# Altium schematic symbol library Schlib2.SchLib: 135 symbols
Pins are listed as number, name and electrical type; pins without a type are passive.

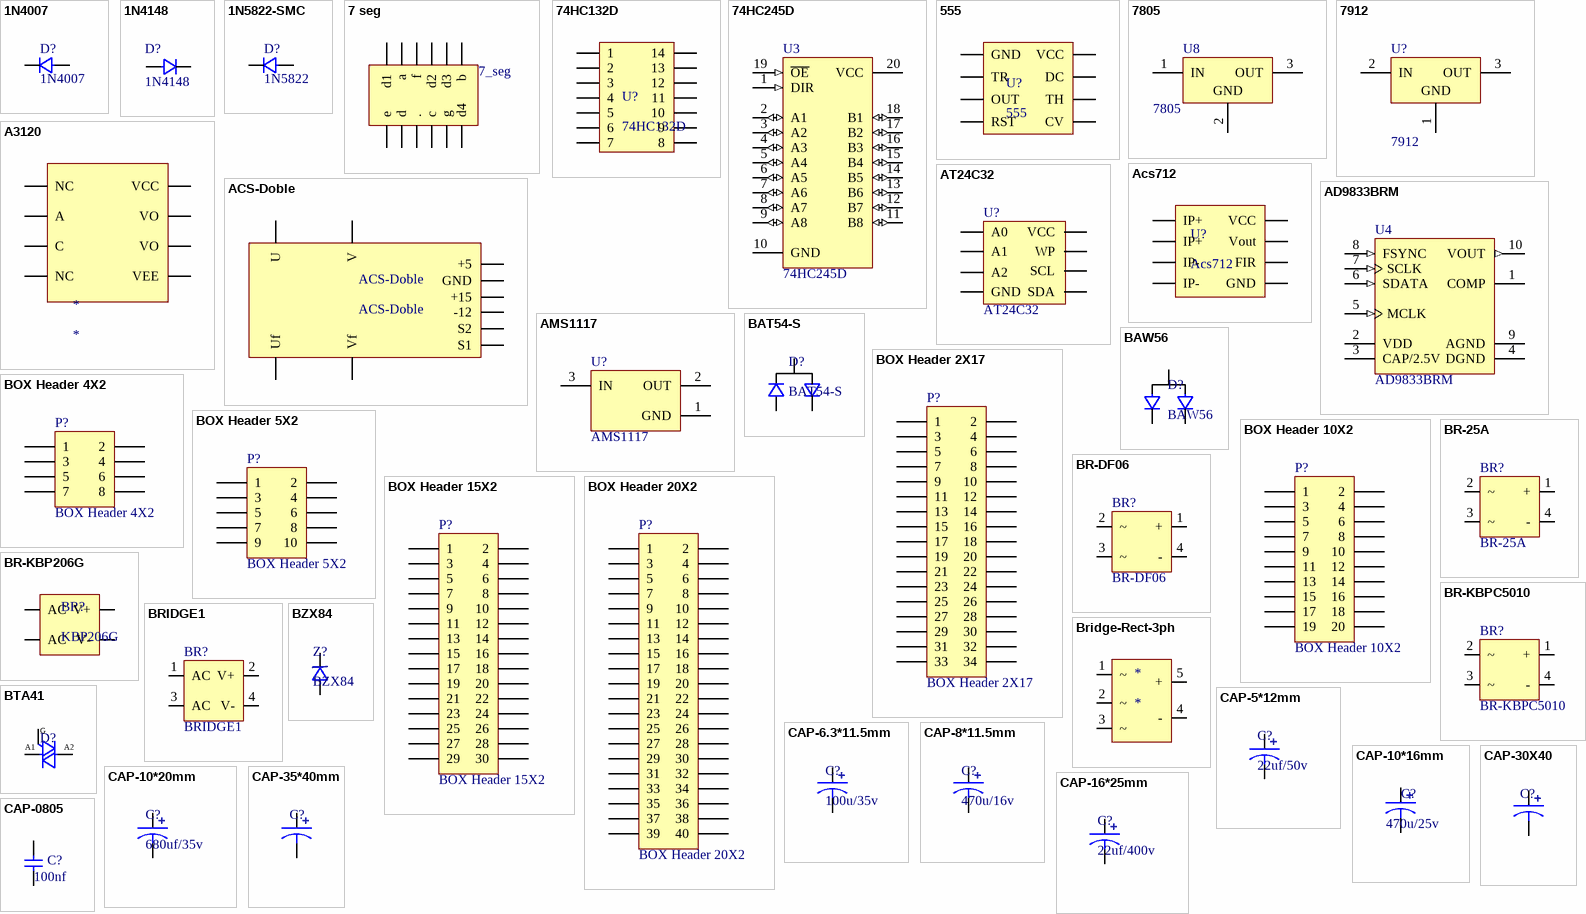
[diagram p0: symbols 1N4007 to CAP-0805]

## 1N4007
designator D?
Diode
footprint DIODE-SMA
footprint DO-41
pins: 1 K, 2 A

## 1N4148
designator D?
Diode
footprint 1N4148
footprint DO-35
pins: 1 A, 2 K

## 1N5822-SMC
designator D?, comment 1N5822
Diode
footprint DIODE-SMC
footprint DO-201AD
pins: 1 K, 2 A

## 7 seg
designator 7_seg, comment 7_seg  (value not drawn)
footprint 7_seg
pins: 1 d1, 2 a, 3 f, 4 d2, 5 d3, 6 b, 7 e, 8 d, 9 ., 10 c, 11 g, 12 d4

## 74HC132D
designator U?
footprint SOIC-7Pin
pins: 1, 2, 3, 4, 5, 6, 7, 8, 9, 10, 11, 12, 13, 14

## 74HC245D
designator U3
Octal 3-State Non-Inverting Bus Transceiver; Published: 15-Apr-2002; LatestRevisionDate: 13-Apr-2006; LatestRevisionNote: IPC-7351 Footprint Added.; DatasheetVersion: Mar-2000; PackageReference: 751D-05; Publisher: Altium Limited; PackageDescription: 20-Pin Small Outline Integrated Circuit 1.27 mm Pitch; ComponentLink1Description: Manufacturer Link; ComponentLink1URL: http://www.onsemi.com/; ComponentLink2Description: Datasheet; ComponentLink2URL: http://www.onsemi.com/pub/Collateral/MC74HC245A-D.PDF
footprint SOIC_20Leads (SOIC, 20-Leads, Body 12.8x7.5mm, Pitch 1.27mm, IPC High Density)
footprint TSSOP-20 Leads (Shrink Small Outline; 20 Leads; Body Width 4.4 mm; Pitch 0.65 mm)
pins: 1 DIR (in), 2 A1 (io), 3 A2 (io), 4 A3 (io), 5 A4 (io), 6 A5 (io), 7 A6 (io), 8 A7 (io), 9 A8 (io), 10 GND (power), 11 B8 (io), 12 B7 (io), 13 B6 (io), 14 B5 (io), 15 B4 (io), 16 B3 (io), 17 B2 (io), 18 B1 (io), 19 ~{OE} (in), 20 VCC (power)

## 555
designator U?
footprint SO-8-N
pins: 1 GND, 2 TR, 3 OUT, 4 RST, 5 CV, 6 TH, 7 DC, 8 VCC

## 7805
designator U8
PartNumber: L7812CV; DatasheetVersion: Nov-2011; PackageVersion: ver3.0; PackageReference: TO220; PackageDescription: TO, Thru-Hole, Vertical, Heatsink Mounted; 3 In-Line Leads; Pitch 2.54 mm; ComponentLink1Description: Manufacturer URL; ComponentLink1URL: http://www.st.com; ComponentLink2Description: Datasheet; ComponentLink2URL: http://www.st.com/internet/com/TECHNICAL_RESOURCES/TECHNICAL_LITERATURE/DATASHEET/CD00000444.pdf; ComponentLink3Description: Package Specification; ComponentLink3URL: http://www.st.com/internet/com/TECHNICAL_RESOURCES/TECHNICAL_LITERATURE/PACKAGE_INFORMATION/CD00004649.pdf
footprint D2PAK
footprint TO-220
footprint TO-252
pins: 1 IN (power), 2 GND (power), 3 OUT (power)

## 7912
designator U?
Three-Terminal Negative Voltage Regulator; Note: Pin 4 is TAB; Pin 2 is trimmed; Published: 15-Apr-2002; DatasheetVersion: 1996; PackageVersion: 1997; PackageReference: 936-03; Publisher: Altium Limited; PackageDescription: D2-PAK/TO-263-AB; 3 Leads (1 Cropped); Body 14.7 (inc. leads) x 10.2 mm (LxW max); ComponentLink1Description: Manufacturer Link; ComponentLink1URL: http://www.onsemi.com/site/products/taxonomy/0,4438,503,00.html; ComponentLink2Description: Datasheet; ComponentLink2URL: http://www.onsemi.com/pub/Collateral/MC7900-D.PDF
footprint TO-252
pins: 1 GND (power), 2 IN (power), 3 OUT (power)

## A3120
designator *
footprint SMD-8
pins: 1 NC, 2 A, 3 C, 4 NC, 5 VEE, 6 VO, 7 VO, 8 VCC

## Acs712
designator U?
footprint SO-8-N
pins: 1 IP+, 2 IP+, 3 IP-, 4 IP-, 5 GND, 6 FIR, 7 Vout, 8 VCC

## ACS-Doble
designator ACS-Doble
footprint ACS-Doble-empty
pins: +5, +15, -12, GND, S1, S2, u U, uf Uf, v V, vf Vf

## AD9833BRM
designator U4
Low Power, 12.65 mW, 2.3 V to 5.5 V, Programmable Waveform Generator, 10-Bit, Serial, RM-10, 50 Tube; Master fclk: 25MHz; Resolution (Bits): 10bit; Tuning Word Width (bits): 28bit; REFCLK Multiplier: No; Compliance Range (V): 650mV; FS Iout (mA nom): 3mA; I Supply total (max): 5.5mA; DatasheetVersion: Rev. D; PackageVersion: 5/8/2005; PackageReference: RM-10; PackageDescription: 10-Lead Mini Small Outline Package [MSOP]; I/O Interface: Serial; Code_JEDEC: MO-187-BA; ComponentLink1Description: Manufacturer URL; ComponentLink1URL: www.analog.com; ComponentLink2Description: Datasheet; ComponentLink2URL: http://www.analog.com/static/imported-files/data_sheets/AD9833.pdf; ComponentLink3Description: Package Specification; ComponentLink3URL: http://www.analog.com/static/imported-files/packages/PKG_PDF/MSOP%28RM%29/RM_10.pdf
footprint TSSOP-10Leads (TSSOP, 10-Leads, Body 3x3mm, Pitch 0.5mm, IPC High Density)
pins: 1 COMP "DAC Bias Pin. This pin is used for decoupling the DAC bias voltage.", 2 VDD (power) "Positive Power Supply for the Analog and Digital Interface Sections. The on-board 2.5 V regulator is also supplied from VDD. VDD can have a value from 2.3 V to 5.5 V. [see datasheet]", 3 CAP/2.5V (power) "The digital circuitry operates from a 2.5 V power supply. This 2.5 V is generated from VDD using an on-board regulator when VDD exceeds 2.7 V. [see datasheet]", 4 DGND (power) "Digital Ground.", 5 MCLK (in) "Digital Clock Input. DDS output frequencies are expressed as a binary fraction of the frequency of MCLK. The output frequency accuracy and phase noise are determined by this clock.", 6 SDATA (in) "Serial Data Input. The 16-bit serial data-word is applied to this input.", 7 SCLK (in) "Serial Clock Input. Data is clocked into the AD9833 on each falling edge of SCLK.", 8 FSYNC (in) "Active Low Control Input. FSYNC is the frame synchronization signal for the input data. When FSYNC is taken low, the internal logic is informed that a new word is being loaded into the device. [see datasheet]", 9 AGND (power) "Analog Ground.", 10 VOUT (out) "Voltage Output. The analog and digital output from the AD9833 is available at this pin. An external load resistor is not required because the device has a 200  ohm resistor on board."

## AMS1117
designator U?
800mA SOT-223; PartNumber: LM1117MP-3.3; Manufacturer: National Semiconductor; PackageTopMarking: XYTT*N05A; PowerWise: N; CompType: LDO IC; High-Reliability: Y; DatasheetVersion: Apr-2006; PackageVersion: revB, Apr-2003; PackageReference: MP04A; PackageDescription: Molded SOT-223, 6.50 x 3.56 x 1.6mm Body, 4 Lead, 2.3mm Pitch; RoHS: N; PinCount: 4; Code_JEDEC: TO-261-AA; Code_IPC: SOT223-4; ComponentLink1Description: Manufacturer URL; ComponentLink1URL: http://www.national.com/; ComponentLink2Description: LM1117 Datasheet; ComponentLink2URL: http://www.national.com/ds/LM/LM1117.pdf; ComponentLink3Description: LM1117 Web Page; ComponentLink3URL: http://www.national.com/pf/LM/LM1117.html; ComponentLink4Description: MP04A Package Page; ComponentLink4URL: http://www.national.com/packaging/folders/mp04a.html
footprint AMS1117-SOT223
pins: 1 GND (power), 2 OUT (power), 3 IN (power)

## AT24C32
designator U?
footprint SO-8-N
pins: 1 A0, 2 A1, 3 A2, 4 GND, 5 SDA, 6 SCL, 7 WP, 8 VCC

## BAT54-S
designator D?
footprint SOT23
pins: 1 K, 2 K, 3

## BAW56
designator D?
footprint SOT23
pins: 1 K, 2 K, 3

## BOX Header 2X17
designator P?
Header, 17-Pin, Dual row; LatestRevisionDate: 17-Jul-2002; LatestRevisionNote: Re-released for DXP Platform.; Publisher: Altium Limited
footprint BOX Header 2X17
footprint BOX Header 2X17 RA
pins: 1, 2, 3, 4, 5, 6, 7, 8, 9, 10, 11, 12, 13, 14, 15, 16, 17, 18, 19, 20, 21, 22, 23, 24, 25, 26, 27, 28, 29, 30, 31, 32, 33, 34

## BOX Header 4X2
designator P?
Header, 4-Pin, Dual row; LatestRevisionDate: 17-Jul-2002; LatestRevisionNote: Re-released for DXP Platform.; Publisher: Altium Limited
footprint BOX-HEADER-2X4
pins: 1, 2, 3, 4, 5, 6, 7, 8

## BOX Header 5X2
designator P?
Header, 5-Pin, Dual row; LatestRevisionDate: 17-Jul-2002; LatestRevisionNote: Re-released for DXP Platform.; Publisher: Altium Limited
footprint BOX-HEADER-2X5
pins: 1, 2, 3, 4, 5, 6, 7, 8, 9, 10

## BOX Header 10X2
designator P?
Header, 10-Pin, Dual row; LatestRevisionDate: 17-Jul-2002; LatestRevisionNote: Re-released for DXP Platform.; Publisher: Altium Limited
footprint BOX-HEADER-2X10
pins: 1, 2, 3, 4, 5, 6, 7, 8, 9, 10, 11, 12, 13, 14, 15, 16, 17, 18, 19, 20

## BOX Header 15X2
designator P?
Header, 15-Pin; LatestRevisionDate: 17-Jul-2002; LatestRevisionNote: Re-released for DXP Platform.; Publisher: Altium Limited
footprint BOX-HEADER-2X15
pins: 1, 2, 3, 4, 5, 6, 7, 8, 9, 10, 11, 12, 13, 14, 15, 16, 17, 18, 19, 20, 21, 22, 23, 24, 25, 26, 27, 28, 29, 30

## BOX Header 20X2
designator P?
Header, 20-Pin, Dual row; LatestRevisionDate: 17-Jul-2002; LatestRevisionNote: Re-released for DXP Platform.; Publisher: Altium Limited
footprint BOX-HEADER-2X20
pins: 1, 2, 3, 4, 5, 6, 7, 8, 9, 10, 11, 12, 13, 14, 15, 16, 17, 18, 19, 20, 21, 22, 23, 24, 25, 26, 27, 28, 29, 30, 31, 32, 33, 34, 35, 36, 37, 38, 39, 40

## BR-25A
designator BR?
footprint BR-25A
pins: 1 +, 2 ~, 3 ~, 4 -

## BR-DF06
designator BR?
footprint DF06
pins: 1 +, 2 ~, 3 ~, 4 -

## BR-KBP206G
designator BR?, comment KBP206G
footprint KBP206G
footprint KBU810
pins: 1 V+, 2 AC, 3 AC, 4 V-

## BR-KBPC5010
designator BR?
footprint KBPC5010
footprint KBPC5010W
pins: 1 +, 2 ~, 3 ~, 4 -

## BRIDGE1
designator BR?
Diode Bridge
footprint BRIDGE1
footprint BR-SMA
pins: 1 AC, 2 V+, 3 AC, 4 V-

## Bridge-Rect-3ph
designator *
footprint Bridge_Rect_3ph
pins: 1 ~, 2 ~, 3 ~, 4 -, 5 +

## BTA41
designator D?  (value not drawn)
footprint TO-264-N
pins: 1, 2 A, 3
text: G; A1; A2

## BZX84
designator Z?
footprint SOT23
pins: 2 K, 3

## CAP-5*12mm
designator C?, comment 22uf/50v
Capacitor
footprint CAP-5*12mm
pins: 1, 2

## CAP-6.3*11.5mm
designator C?, comment 100u/35v
Capacitor
footprint CAP-6.3*11.5mm
pins: 1, 2

## CAP-8*11.5mm
designator C?, comment 470u/16v
Capacitor
footprint CAP-8*11.5mm
pins: 1, 2

## CAP-10*16mm
designator C?, comment 470u/25v
Capacitor
footprint CAP-10*16mm
pins: 1, 2

## CAP-10*20mm
designator C?, comment 680uf/35v
Capacitor
footprint CAP-10*20mm
pins: 1, 2

## CAP-16*25mm
designator C?, comment 22uf/400v
Capacitor
footprint CAP-16*25mm
pins: 1, 2

## CAP-30X40
designator C?  (value not drawn)
footprint CAP-30X40
pins: 1, 2

## CAP-35*40mm
designator C?, comment 680UF/450V  (value not drawn)
Capacitor
footprint CAP-35*40mm
pins: 1, 2

## CAP-0805
designator C?, comment 100nf
Capacitor
footprint cap-0805
pins: 1, 2

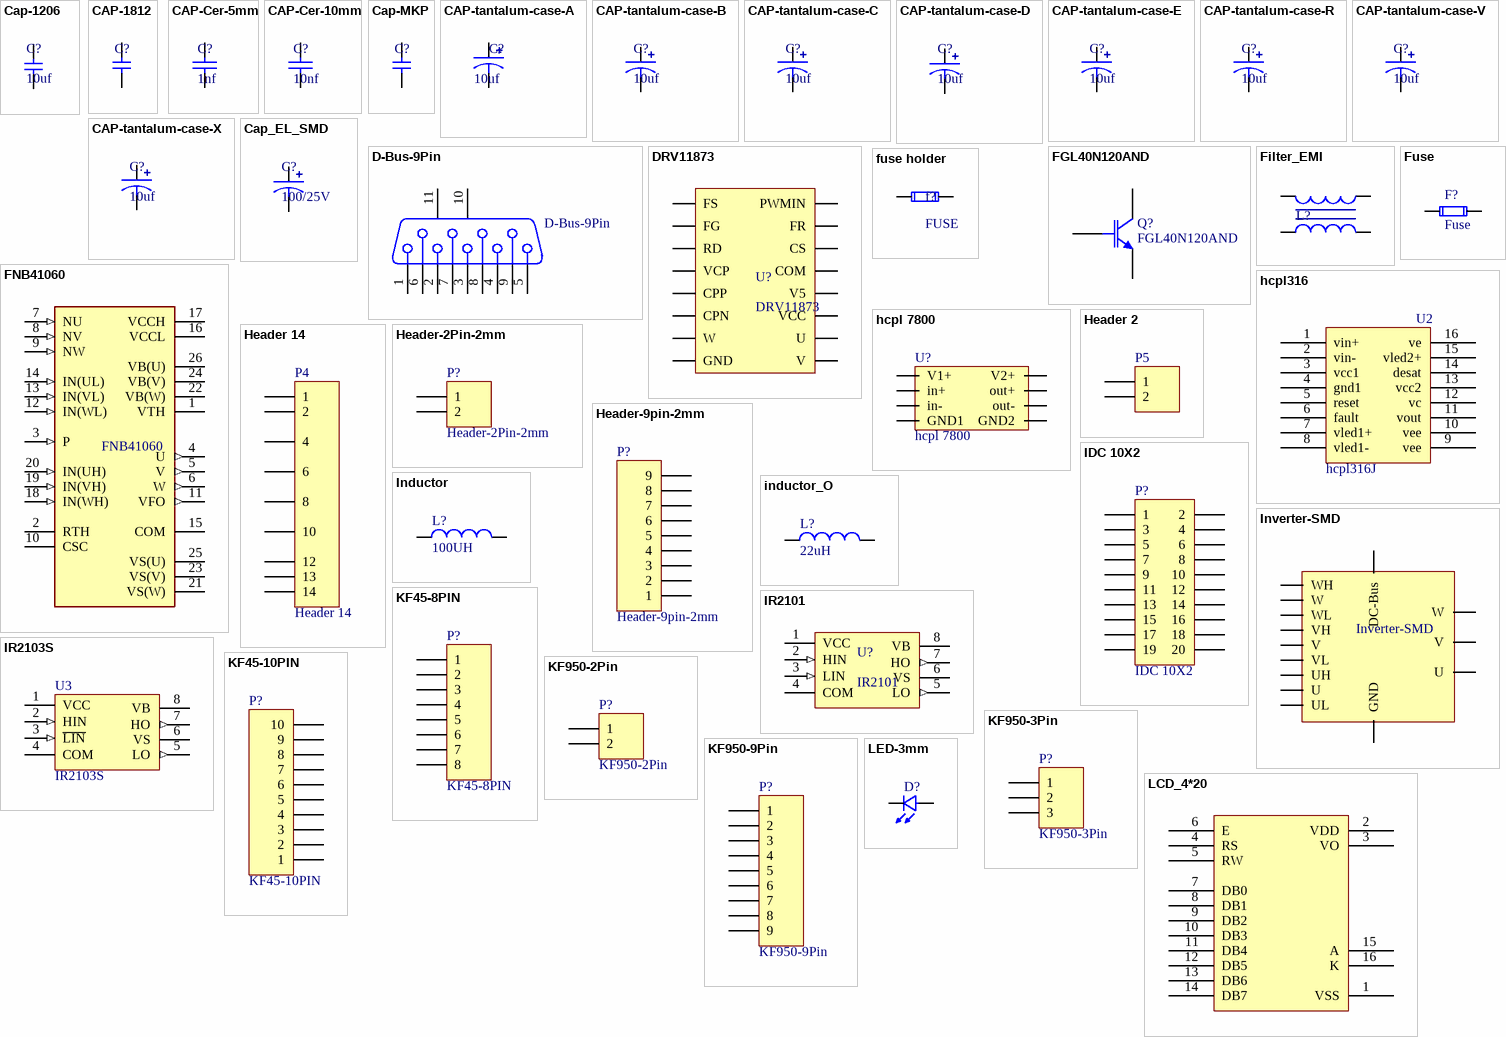
[diagram p1: symbols Cap-1206 to LED-3mm]

## Cap-1206
designator C?, comment 10uf
footprint CAP_1206
pins: 1, 2

## CAP-1812
designator C?  (value not drawn)
footprint CAP-1812
pins: 1, 2

## CAP-Cer-5mm
designator C?, comment 1nf
Capacitor
footprint CAP-Cer-5mm
pins: 1, 2

## CAP-Cer-10mm
designator C?, comment 10nf
Capacitor
footprint CAP-Cer-10mm
pins: 1, 2

## Cap-MKP
designator C?  (value not drawn)
footprint CAP-MKP-W3-H8-L10
footprint CAP-MKP-W6-H12-L18
footprint CAP-MKP-W8-H17-L21
pins: 1, 2

## CAP-tantalum-case-A
designator C?, comment 10uf
Capacitor
footprint TAN-CASE-A
pins: 1, 2

## CAP-tantalum-case-B
designator C?, comment 10uf
Capacitor
footprint TAN-CASE-B
pins: 1, 2

## CAP-tantalum-case-C
designator C?, comment 10uf
Capacitor
footprint TAN-CASE-C
pins: 1, 2

## CAP-tantalum-case-D
designator C?, comment 10uf
Capacitor
footprint TAN-CASE-D
pins: 1, 2

## CAP-tantalum-case-E
designator C?, comment 10uf
Capacitor
footprint TAN-CASE-E
pins: 1, 2

## CAP-tantalum-case-R
designator C?, comment 10uf
Capacitor
footprint TAN-CASE-R
pins: 1, 2

## CAP-tantalum-case-V
designator C?, comment 10uf
Capacitor
footprint TAN-CASE-V
pins: 1, 2

## CAP-tantalum-case-X
designator C?, comment 10uf
Capacitor
footprint TAN-CASE-X
pins: 1, 2

## Cap_EL_SMD
designator C?, comment 100/25V
footprint CAP_SMD-11X10
footprint CAP_SMD-7.3X6.6
footprint CAP-SMD-5X5.4
pins: 1, 2

## D-Bus-9Pin
designator D-Bus-9Pin  (value not drawn)
Receptacle Assembly, 9 Position, Right Angle; PackageDocument: O; Positions: 9; Published: 15-Jun-2001; LatestRevisionDate: 17-Jul-2002; LatestRevisionNote: Re-released for DXP Platform.; DatasheetDocument: 1-Sep-1999; PackageReference: 788750; Publisher: Altium Limited; Orientation: Right Angle; Gender: Receptacle
footprint D-Bus-9Pin
pins: 1, 2, 3, 4, 5, 6, 7, 8, 9, 10 MH1, 11 MH2

## DRV11873
designator U?
footprint TSSOP-16PIN
pins: 1 FS, 2 FG, 3 RD, 4 VCP, 5 CPP, 6 CPN, 7 W, 8 GND, 9 V, 10 U, 11 VCC, 12 V5, 13 COM, 14 CS, 15 FR, 16 PWMIN

## FGL40N120AND
designator Q?
Nch IGBT for Strobe Flasher; Published: 30-Oct-2009; DatasheetVersion: Rev.2.00, Jul-2005; PackageVersion: Sep-2005; PackageReference: PRSS0003AB-A; Publisher: Altium Limited; PackageDescription: TO, Thru-Hole, Vertical, Heatsink Mounted; 3 In-Line Leads; Pitch 2.54 mm (TO-220FN); ComponentLink1Description: Manufacturer Link; ComponentLink1URL: http://sg.renesas.com/fmwk.jsp?cnt=discrete_category_landing.jsp&fp=/products/discrete/; ComponentLink2Description: Datasheet; ComponentLink2URL: http://documentation.renesas.com/eng/products/transistor/rej03g0286_ct40km8h.pdf; ComponentLink3Description: Packaging Specification; ComponentLink3URL: http://sg.renesas.com/media/products/common_info/package/pdf/transistor/code/prss0003ab_a.pdf
footprint TO-264
pins: 1 G, 2 C, 3 E

## Filter_EMI
designator L?
Filter_EMI; Code_IEC: 1005; Value: 10mH; Published: 8-Jun-2000; LatestRevisionDate: 29-May-2009; LatestRevisionNote: IPC-7351 Footprint Added.; PackageReference: 0402-A; Publisher: Altium Limited; PackageDescription: Chip Inductor; Code_JEITA: 0402
footprint FILTER-EMI
footprint FILTER-EMI-2
pins: 1, 2, 3, 4

## FNB41060
designator FNB41060  (value not drawn)
footprint FBN41060
pins: 1 VTH (power), 2 RTH, 3 P (in), 4 U (out), 5 V (out), 6 W (out), 7 NU (in), 8 NV (in), 9 NW (in), 10 CSC, 11 VFO (out), 12 IN(WL) (in), 13 IN(VL) (in), 14 IN(UL) (in), 15 COM (power), 16 VCCL (power), 17 VCCH (power), 18 IN(WH) (in), 19 IN(VH) (in), 20 IN(UH) (in), 21 VS(W) (power), 22 VB(W) (power), 23 VS(V) (power), 24 VB(V) (power), 25 VS(U) (power), 26 VB(U) (power)

## Fuse
designator F?
footprint Fuse-small
footprint Fuse-2
footprint RES-1206
pins: 1, 2

## fuse holder
designator f?, comment FUSE
Resistor; Published: 8-Jun-2000; LatestRevisionDate: 17-Jul-2002; LatestRevisionNote: Re-released for DXP Platform.; PackageReference: AXIAL-0.4; Publisher: Altium Limited; PackageDescription: Axial Device, Thru-Hole; 2 Leads; 0.4 in Pin Spacing
footprint FUSE-HOLDER
footprint FUSE-HOLDER2
footprint FUSE_HOLDER3
pins: 1, 2

## hcpl316
designator U2, comment hcpl316J
footprint hcpl316
pins: 1 vin+, 2 vin-, 3 vcc1, 4 gnd1, 5 reset, 6 fault, 7 vled1+, 8 vled1-, 9 vee, 10 vee, 11 vout, 12 vc, 13 vcc2, 14 desat, 15 vled2+, 16 ve

## hcpl 7800
designator U?
footprint PDIP8 (DIP; 8 Leads; Row Spacing 7.62 mm; Pitch 2.54 mm)
pins: 1 V1+, 2 in+, 3 in-, 4 GND1, 5 GND2, 6 out-, 7 out+, 8 V2+

## Header 2
designator P5
LatestRevisionDate: 17-Jul-2002; LatestRevisionNote: Re-released for DXP Platform.; Publisher: Altium Limited
footprint HEADER-2PIN
footprint XH-2PIN
pins: 1, 2

## Header 14
designator P4
Header, 14-Pin; LatestRevisionDate: 17-Jul-2002; LatestRevisionNote: Re-released for DXP Platform.; Publisher: Altium Limited
footprint 14pin-2.54mm
pins: 1, 2, 4, 6, 8, 10, 12, 13, 14

## Header-2Pin-2mm
designator P?
Header, 2-Pin; LatestRevisionDate: 17-Jul-2002; LatestRevisionNote: Re-released for DXP Platform.; Publisher: Altium Limited
footprint 2PIN-2MM
pins: 1, 2

## Header-9pin-2mm
designator P?
Header, 9-Pin; LatestRevisionDate: 17-Jul-2002; LatestRevisionNote: Re-released for DXP Platform.; Publisher: Altium Limited
footprint 9PIN-2MM
pins: 1, 2, 3, 4, 5, 6, 7, 8, 9

## IDC 10X2
designator P?
LatestRevisionDate: 17-Jul-2002; LatestRevisionNote: Re-released for DXP Platform.; Publisher: Altium Limited
footprint IDC-2X10
pins: 1, 2, 3, 4, 5, 6, 7, 8, 9, 10, 11, 12, 13, 14, 15, 16, 17, 18, 19, 20

## Inductor
designator L?, comment 100UH
Inductor; Code_IEC: 1005; Value: 10mH; Published: 8-Jun-2000; LatestRevisionDate: 29-May-2009; LatestRevisionNote: IPC-7351 Footprint Added.; PackageReference: 0402-A; Publisher: Altium Limited; PackageDescription: Chip Inductor; Code_JEITA: 0402
footprint INDUCTOR-5*5
footprint INDUCATOR-10X10
pins: 1, 2

## inductor_O
designator L?, comment 22uH
Inductance: 470 µH; DatasheetVersion: ver 1, Mar-2010; PackageVersion: 2010; PackageReference: WE-TI-LM-STBG; PackageDescription: THT Inductor, 2-Leads, Body 9.5 x 9.5 mm; ComponentLink1Description: Manufacturer URL; ComponentLink1URL: http://www.we-online.com; ComponentLink2Description: Datasheet; ComponentLink2URL: http://www.we-online.de/katalog/media/pdf/744732471.pdf
footprint INDUCTOR-O
pins: 1, 2

## Inverter-SMD
designator Inverter-SMD  (value not drawn)
footprint Inverter_SMD-D2PACK
footprint Inverter_SMD-TO252
pins: 1 WH, 2 W, 3 WL, 4 VH, 5 V, 6 VL, 7 UH, 8 U, 9 UL, 10 DC-Bus, 11 GND, 12 W, 13 V, 14 U

## IR2101
designator U?
footprint SO-8-N
pins: 1 VCC (power), 2 HIN (in), 3 LIN (in), 4 COM (power), 5 LO (out), 6 VS (power), 7 HO (out), 8 VB (power)

## IR2103S
designator U3
High and Low Side Driver; Published: 8-Jun-2000; LatestRevisionDate: 13-Apr-2006; LatestRevisionNote: IPC-7351 Footprint Added.; DatasheetVersion: PD600451; PackageVersion: Feb-2001; PackageReference: SO-8; Publisher: Altium Limited; PackageDescription: 8-Pin Plastic Small Outline Integrated Circuit 1.27 mm Pitch; Code_JEDEC: MS-012-AA; Code_IPC: SOIC127P600-8; ComponentLink1Description: Manufacturer Link; ComponentLink1URL: http://www.irf.com/; ComponentLink2Description: Datasheet; ComponentLink2URL: http://www.irf.com/product-info/datasheets/data/ir2103.pdf
footprint SO-8-N
pins: 1 VCC (power), 2 HIN (in), 3 ~{LIN} (in), 4 COM (power), 5 LO (out), 6 VS (power), 7 HO (out), 8 VB (power)

## KF45-8PIN
designator P?
LatestRevisionDate: 17-Jul-2002; LatestRevisionNote: Re-released for DXP Platform.; Publisher: Altium Limited
footprint kf45
pins: 1, 2, 3, 4, 5, 6, 7, 8

## KF45-10PIN
designator P?
LatestRevisionDate: 17-Jul-2002; LatestRevisionNote: Re-released for DXP Platform.; Publisher: Altium Limited
footprint KF45-10PIN
pins: 1, 2, 3, 4, 5, 6, 7, 8, 9, 10

## KF950-2Pin
designator P?
LatestRevisionDate: 17-Jul-2002; LatestRevisionNote: Re-released for DXP Platform.; Publisher: Altium Limited
footprint KF950-2Pin
pins: 1, 2

## KF950-3Pin
designator P?
LatestRevisionDate: 17-Jul-2002; LatestRevisionNote: Re-released for DXP Platform.; Publisher: Altium Limited
footprint KF950-3Pin
pins: 1, 2, 3

## KF950-9Pin
designator P?
LatestRevisionDate: 17-Jul-2002; LatestRevisionNote: Re-released for DXP Platform.; Publisher: Altium Limited
footprint KF950-9Pin
pins: 1, 2, 3, 4, 5, 6, 7, 8, 9

## LCD_4*20
designator LCD1  (value not drawn)
Value: *
footprint LCD 4*20
pins: 1 VSS, 2 VDD, 3 VO, 4 RS, 5 RW, 6 E, 7 DB0, 8 DB1, 9 DB2, 10 DB3, 11 DB4, 12 DB5, 13 DB6, 14 DB7, 15 A, 16 K

## LED-3mm
designator D?, comment LED  (value not drawn)
footprint LED-3mm
pins: 1 A, 2 K

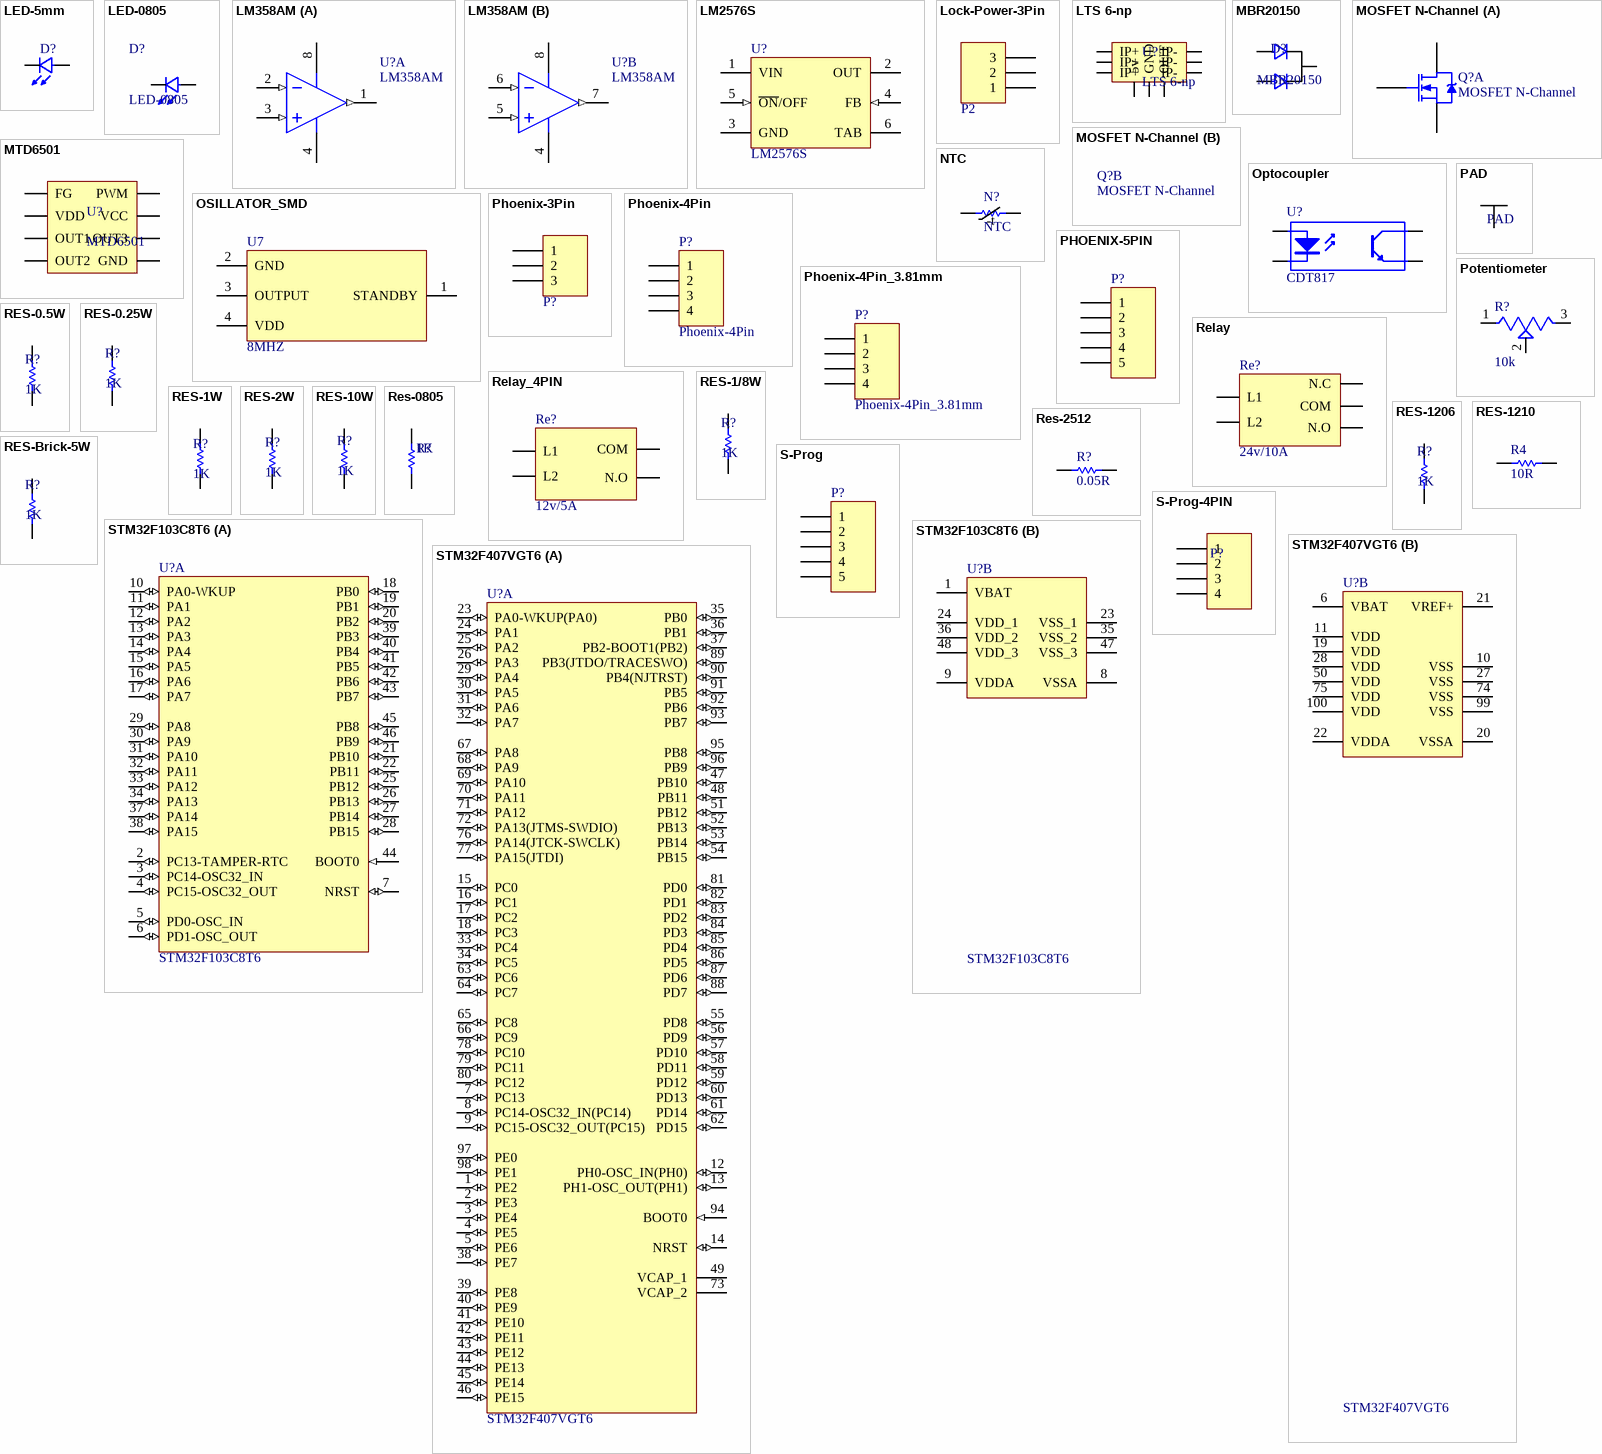
[diagram p2: symbols LED-5mm to STM32F407VGT6]

## LED-5mm
designator D?, comment LED  (value not drawn)
footprint LED-5mm
pins: 1 A, 2 K

## LED-0805
designator D?
LED
footprint LED-0805
pins: 1 A, 2 K

## LM358AM
designator U?
Low Power Dual Operational Amplifier, 8-pin Narrow SOIC; Manufacturer: National Semiconductor; PackageTopMarking: NSZXTT*LM*358AM; PowerWise: N; CompType: Amplifiers; High-Reliability: Y; DatasheetVersion: Oct-2005; PackageVersion: revM, May-2009; PackageReference: M08A; PackageDescription: SOIC Narrow, 4.9 x 3.9 x 1.45mm, 8 Lead, 1.27mm Pitch; PartNumber: LM358AM; RoHS: N; PinCount: 8; Code_JEDEC: MS-012-AA; Code_IPC: SOIC127P600-8; ComponentLink1Description: Manufacturer URL; ComponentLink1URL: http://www.national.com/; ComponentLink2Description: LM358 Datasheet; ComponentLink2URL: http://www.national.com/ds/LM/LM358.pdf; ComponentLink3Description: LM358 Web Page; ComponentLink3URL: http://www.national.com/pf/LM/LM358.html; ComponentLink4Description: M08A Package Page; ComponentLink4URL: http://www.national.com/packaging/folders/m08a.html
footprint SO-8-N
pins on every part: 4 GND (power), 8 V+ (power)
part A pins: 1 OUTA (out), 2 INA- (in), 3 INA+ (in)
part B pins: 5 INB+ (in), 6 INB- (in), 7 OUTB (out)

## LM2576S
designator U?
5-pin TO-263; PartNumber: LM2576S-5.0; Manufacturer: National Semiconductor; PackageTopMarking: NSUZXYTTE#*LM2576S*-5.0 P+; PowerWise: N; CompType: Switcher; High-Reliability: Y; DatasheetVersion: Aug-2004; PackageVersion: revD, Apr-2005; PackageReference: TS5B; PackageDescription: TO-263, Molded, .400 x .390 x .180in, 5 Lead, .067in Pitch, Surface Mount; RoHS: N; PinCount: 5; Code_JEDEC: MO-169-AB; ComponentLink1Description: Manufacturer URL; ComponentLink1URL: http://www.national.com/; ComponentLink2Description: LM2576 Datasheet; ComponentLink2URL: http://www.national.com/ds/LM/LM2576.pdf; ComponentLink3Description: LM2576 Web Page; ComponentLink3URL: http://www.national.com/pf/LM/LM2576.html; ComponentLink4Description: TS5B Package Page; ComponentLink4URL: http://www.national.com/packaging/folders/ts5b.html
footprint TO-263-SMD
pins: 1 VIN (power), 2 OUT (power), 3 GND (power), 4 FB (in), 5 ~{ON}/OFF (in), 6 TAB (power)

## Lock-Power-3Pin
designator P2  (value not drawn)
LatestRevisionDate: 17-Jul-2002; LatestRevisionNote: Re-released for DXP Platform.; Publisher: Altium Limited
footprint LOCK-POWER-3PIN
pins: 1, 2, 3

## LTS 6-np
designator U?
footprint LTS 6-NP
pins: 1 5v (power), 2 GND, 3 OUT, 4 IP+, 5 IP+, 6 IP+, 7 IP-, 8 IP-, 9 IP-

## MBR20150
designator D?
Diode
footprint TO-220
pins: 1 A, 2 K, 3 A

## MOSFET N-Channel
designator Q?
MOSFET; Note: Pin 2 is electrically connected to pin 4.; Published: 8-Jun-2000; LatestRevisionDate: 17-Jul-2002; LatestRevisionNote: Re-released for DXP Platform.; DatasheetVersion: PD-9.307O; PackageVersion: Feb-1997; PackageReference: TO-220AB; Publisher: Altium Limited; PackageDescription: TO, Thru-Hole, Vertical, Heatsink Mounted; 3 In-Line Leads; Pitch 2.54 mm; ComponentLink1Description: Manufacturer Link; ComponentLink1URL: http://www.irf.com/; ComponentLink2Description: Datasheet; ComponentLink2URL: http://www.irf.com/product-info/datasheets/data/irf530.pdf
footprint TO-220
footprint TO-220-90D
footprint TO-220-90D-2
footprint TO-252
footprint D2PAK
footprint TO-264-1
part A pins: 1 G, 2 D, 3 S

## MTD6501
designator U?
footprint SO-8-N
pins: 1 FG, 2 VDD, 3 OUT1, 4 OUT2, 5 GND, 6 OUT3, 7 VCC, 8 PWM

## NTC
designator N?
footprint NTC-9mm
pins: 1, 2
text: -t

## Optocoupler
designator U?, comment CDT817
Optocoupler; Published: 24-Mar-1999; LatestRevisionDate: 04-Mar-2005; LatestRevisionNote: Sch pins 3 & 4 Swapped.; DatasheetVersion: Nov-2003; PackageReference: DIP-4; Publisher: Altium Limited
footprint DIP-4
footprint OPTO-SMD
pins: 1 A "Anode", 2 K "Cathode", 3 E "Emitter", 4 C "Collector"

## OSILLATOR_SMD
designator U7, comment 8MHZ
footprint OSILLATOR (SMD)
pins: 1 STANDBY, 2 GND (power), 3 OUTPUT, 4 VDD (power)

## PAD
designator P?
footprint PAD
pins: 1 VDD

## Phoenix-3Pin
designator P?  (value not drawn)
LatestRevisionDate: 17-Jul-2002; LatestRevisionNote: Re-released for DXP Platform.; Publisher: Altium Limited
footprint PHOENIX-3PIN-ST
pins: 1, 2, 3

## Phoenix-4Pin
designator P?
LatestRevisionDate: 17-Jul-2002; LatestRevisionNote: Re-released for DXP Platform.; Publisher: Altium Limited
footprint PHOENIX-4PIN-ST
pins: 1, 2, 3, 4

## Phoenix-4Pin_3.81mm
designator P?
Phoenix-4Pin-3.81mm; LatestRevisionDate: 17-Jul-2002; LatestRevisionNote: Re-released for DXP Platform.; Publisher: Altium Limited
footprint PHOENIX-4PIN-3.81mm
pins: 1, 2, 3, 4

## PHOENIX-5PIN
designator P?
PHOENIX-5PIN; LatestRevisionDate: 17-Jul-2002; LatestRevisionNote: Re-released for DXP Platform.; Publisher: Altium Limited
footprint PHENIX-5PIN-ST
pins: 1, 2, 3, 4, 5

## Potentiometer
designator R?, comment 10k
10 kOhms 0.5W, 1/Potentiometer; MF: Bourns; MP: 3296W-1-103; Package: SOT-23-5 Bourns; DigiKey-Purchase-URL: https://snapeda.com/shop?store=DigiKey&id=421595; Value: *; Availability: Unavailable; SnapEDA_Link: https://www.snapeda.com/parts/3296W-1-103/Bourns/view-part/421595/?ref=snap; Price: None
footprint Potentiometer
pins: 1 CCW, 2 WIPER, 3 CW

## Relay
designator Re?, comment 24v/10A
footprint RELAY
pins: 1 L1, 2 L2, 3 N.O, 4 COM, 5 N.C

## Relay_4PIN
designator Re?, comment 12v/5A
footprint Relay-4Pin
pins: 1 L1, 2 L2, 3 COM, 4 N.O

## RES-0.5W
designator R?, comment 1K
Resistor
footprint RES-0.5W
pins: 1, 2

## RES-0.25W
designator R?, comment 1K
Resistor
footprint RES-0.25W
pins: 1, 2

## RES-1/8W
designator R?, comment 1K
Resistor
footprint RES-1/8W
pins: 1, 2

## RES-1W
designator R?, comment 1K
Resistor
footprint RES-1W
pins: 1, 2

## RES-2W
designator R?, comment 1K
Resistor
footprint RES-2W
pins: 1, 2

## RES-10W
designator R?, comment 1K
Resistor
footprint RES-10W
pins: 1, 2

## Res-0805
designator R?, comment 1K
Resistor; Value: 2.2K; Published: 8-Jun-2000; Revision: July-2002: Re-released for DXP Platform.; Publisher: Altium Limited
footprint res-0805
pins: 1, 2
1 alternate drawing of the same symbol

## RES-1206
designator R?, comment 1K
Resistor
footprint RES-1206
pins: 1, 2

## RES-1210
designator R4, comment 10R
Resistor
footprint RES-1210
pins: 1, 2

## Res-2512
designator R?, comment 0.05R
Resistor; Value: 2.2K; Published: 8-Jun-2000; Revision: July-2002: Re-released for DXP Platform.; Publisher: Altium Limited
footprint 2512
pins: 1, 2
1 alternate drawing of the same symbol

## RES-Brick-5W
designator R?, comment 1K
Resistor
footprint RES-Brick-5W
pins: 1, 2

## S-Prog
designator P?  (value not drawn)
Header, 5-Pin; LatestRevisionDate: 17-Jul-2002; LatestRevisionNote: Re-released for DXP Platform.; Publisher: Altium Limited
footprint 5Pin-2mm
pins: 1, 2, 3, 4, 5

## S-Prog-4PIN
designator P?  (value not drawn)
footprint 4Pin-2mm
pins: 1, 2, 3, 4

## STM32F103C8T6
designator U?
ARM Cortex-M3 32-bit MCU, 64 KB Flash, 20 KB Internal RAM, 37 I/Os, 48-pin LQFP, -40 to 85 degC, Tray; A/D Converter: 2x12-bit (10 Channel); FLASH Size (Prog) (kB): 64; I/Os (High Current): 37; Internal RAM Size (kB): 20; Operating Frequency(F) (Processor speed) (MHz): 72; Supply Voltage(Vcc) min (V): 2; DatasheetVersion: Rev. 16; PackageVersion: Rev. 6, 06/2013; PackageReference: LQFP48; PackageDescription: 48-Pin Low Profile Quad Flat Package, 7 x 7 mm Body, 0.5 mm Pitch; Supplier 1: Digi-Key; Supplier Part Number 1: 497-6063-ND; Supplier 2: Farnell; Supplier Part Number 2: 1447637; Supplier 3: Newark; Supplier Part Number 3: 59M2182; Supplier 4: Newark; Supplier Part Number 4: 57P1222; Supplier 5: Mouser; Supplier Part Number 5: 511-STM32F103C8T6; Core: ARM Cortex-M3; Packing: Tray; Mounting Technology: Surface Mount; PartNumber: STM32F103C8T6; ComponentLink1Description: Manufacturer URL; ComponentLink1URL: http://www.st.com/web/en/home.html; ComponentLink2Description: Datasheet; ComponentLink2URL: http://www.st.com/st-web-ui/static/active/en/resource/technical/document/datasheet/CD00161566.pdf; ComponentLink3Description: Package Specification; ComponentLink3URL: http://www.st.com/st-web-ui/static/active/en/resource/technical/document/datasheet/DM00058181.pdf
footprint STM-LQFP48 (QFP, 48-Leads, Body 7x7mm, Pitch 0.5mm, IPC Medium Density)
part A pins: 2 PC13-TAMPER-RTC (io) "PC13-TAMPER-RTC/PC13/TAMPER-RTC", 3 PC14-OSC32_IN (io) "PC14-OSC32_IN/PC14/OSC32_IN", 4 PC15-OSC32_OUT (io) "PC15-OSC32_OUT/PC15/OSC32_OUT", 5 PD0-OSC_IN (io) "PD0/OSC_IN", 6 PD1-OSC_OUT (io) "PD1/OSC_OUT", 7 NRST (io), 10 PA0-WKUP (io) "PA0-WKUP/PA0/WKUP/USART2_CTS/ADC12_IN0/TIM2_CH1_ETR", 11 PA1 (io) "PA1/USART2_RTS/ADC12_IN1/TIM2_CH2", 12 PA2 (io) "PA2/USART2_TX/ADC12_IN2/TIM2_CH3", 13 PA3 (io) "PA3/USART2_RX/ADC12_IN3/TIM2_CH4", 14 PA4 (io) "PA4/SPI1_NSS/USART2_CK/ADC12_IN4", 15 PA5 (io) "PA5/SPI1_SCK/ADC12_IN5", 16 PA6 (io) "PA6/SPI1_MISO/ADC12_IN6/TIM3_CH1/TIM1_BKIN", 17 PA7 (io) "PA7/SPI1_MOSI/ADC12_IN7/TIM3_CH2/TIM1_CH1N", 18 PB0 (io) "PB0/ADC12_IN8/TIM3_CH3/TIM1_CH2N", 19 PB1 (io) "PB1/ADC12_IN9/TIM3_CH4/TIM1_CH3N", 20 PB2 (io) "PB2/BOOT1", 21 PB10 (io) "PB10/I2C2_SCL/USART3_TX/TIM2_CH3", 22 PB11 (io) "PB11/I2C2_SDA/USART3_RX/TIM2_CH4", 25 PB12 (io) "PB12/SPI2_NSS/I2C2_SMBAl/USART3_CK/TIM1_BKIN", 26 PB13 (io) "PB13/SPI2_SCK/USART3_CTS/TIM1_CH1N", 27 PB14 (io) "PB14/SPI2_MISO/USART3_RTS/TIM1_CH2N", 28 PB15 (io) "PB15/SPI2_MOSI/TIM1_CH3N", 29 PA8 (io) "PA8/USART1_CK/TIM1_CH1/MCO", 30 PA9 (io) "PA9/USART1_TX/TIM1_CH2", 31 PA10 (io) "PA10/USART1_RX/TIM1_CH3", 32 PA11 (io) "PA11/USART1_CTS/CANRX/USBDM/TIM1_CH4", 33 PA12 (io) "PA12/USART1_RTS/CANTX/USBDP/TIM1_ETR", 34 PA13 (io) "PA13/JTMS/SWDIO", 37 PA14 (io) "PA14/JTCK/SWCLK", 38 PA15 (io) "PA15/JTDI/TIM2_CH1_ETR/SPI1_NSS", 39 PB3 (io) "PB3/JTDO/TIM2_CH2/TRACESWO/SPI1_SCK", 40 PB4 (io) "PB4/NJTRST/TIM3_CH1/SPI1_MISO", 41 PB5 (io) "PB5/I2C1_SMBAI/TIM3_CH2/SPI1_MOSI", 42 PB6 (io) "PB6/I2C1_SCL/TIM4_CH1/USART1_TX", 43 PB7 (io) "PB7/I2C1_SDA/TIM4_CH2/USART1_RX", 44 BOOT0 (in), 45 PB8 (io) "PB8/TIM4_CH3/I2C1_SCL/CANRX", 46 PB9 (io) "PB9/TIM4_CH4/I2C1_SDA/CANTX"
part B pins: 1 VBAT (power), 8 VSSA (power), 9 VDDA (power), 23 VSS_1 (power), 24 VDD_1 (power), 35 VSS_2 (power), 36 VDD_2 (power), 47 VSS_3 (power), 48 VDD_3 (power)

## STM32F407VGT6
designator U?
ARM Cortex-M4 32-bit MCU+FPU, 210 DMIPS, 1024 kB Flash, 192 kB Internal RAM, 82 I/Os, 100-pin LQFP, -40 to 85 degC, Tray; Manufacturer: STMicroelectronics; D/A Converter: 2x12-bit; FLASH Size (Prog) (kB): 1024; I/Os (High Current): 82; Internal RAM Size (kB): 192; Operating Frequency(F) (Processor speed) (MHz): 168; Supply Voltage(Vcc) max (V): 3.6; Supply Voltage(Vcc) min (V): 1.8; DatasheetVersion: Rev. 4; PackageVersion: Rev. 1, 06/2013; PackageReference: LQFP100; PackageDescription: 100-Pin Low Profile Quad Flat Package, 14 x 14 mm Body, 0.5 mm Pitch; Supplier 1: Digi-Key; Supplier Part Number 1: 497-11605-ND; Supplier 2: Farnell; Supplier Part Number 2: 2064368; Supplier 3: Newark; Supplier Part Number 3: 73T2333; Supplier 4: Mouser; Supplier Part Number 4: 511-STM32F407VGT6; Core: ARM Cortex-M4; Packing: Tray; Mounting Technology: Surface Mount; PartNumber: STM32F407VGT6; ComponentLink1Description: Manufacturer URL; ComponentLink1URL: http://www.st.com/web/en/home.html; ComponentLink2Description: Datasheet; ComponentLink2URL: http://www.st.com/st-web-ui/static/active/en/resource/technical/document/datasheet/DM00037051.pdf; ComponentLink3Description: Package Specification; ComponentLink3URL: http://www.st.com/st-web-ui/static/active/en/resource/technical/document/data_brief/DM00071938.pdf
footprint STM-LQFP100 (Thin QFP, 100-Leads, Body 14x14mm, Pitch 0.5mm, IPC High Density)
part A pins: 1 PE2 (io) "PE2/TRACECLK/FSMC_A23/ETH_MII_TXD3/EVENTOUT", 2 PE3 (io) "PE3/TRACED0/FSMC_A19/EVENTOUT", 3 PE4 (io) "PE4/TRACED1/FSMC_A20/DCMI_D4/EVENTOUT", 4 PE5 (io) "PE5/TRACED2/FSMC_A21/TIM9_CH1/DCMI_D6/EVENTOUT", 5 PE6 (io) "PE6/TRACED3/FSMC_A22/TIM9_CH2/DCMI_D7/EVENTOUT", 7 PC13 (io) "PC13/EVENTOUT/RTC_OUT,RTC_TAMP1,RTC_TS", 8 PC14-OSC32_IN(PC14) (io) "PC14-OSC32_IN(PC14)/EVENTOUT/OSC32_IN", 9 PC15-OSC32_OUT(PC15) (io) "PC15-OSC32_OUT(PC15)/EVENTOUT/OSC32_OUT", 12 PH0-OSC_IN(PH0) (io) "PH0-OSC_IN(PH0)/EVENTOUT/OSC_IN", 13 PH1-OSC_OUT(PH1) (io) "PH1-OSC_OUT(PH1)/EVENTOUT/OSC_OUT", 14 NRST (io), 15 PC0 (io) "PC0/OTG_HS_ULPI_STP/EVENTOUT/ADC123_IN10", 16 PC1 (io) "PC1/ETH_MDC/EVENTOUT/ADC123_IN11", 17 PC2 (io) "PC2/SPI2_MISO/OTG_HS_ULPI_DIR/ETH_MII_TXD2/I2S2ext_SD/EVENTOUT/ADC123_IN12", 18 PC3 (io) "PC3/SPI2_MOSI/I2S2_SD/OTG_HS_ULPI_NXT/ETH_MII_TX_CLK/EVENTOUT/ADC123_IN13", 23 PA0-WKUP(PA0) (io) "PA0-WKUP(PA0)/USART2_CTS/UART4_TX/ETH_MII_CRS/TIM2_CH1_ETR/TIM5_CH1/TIM8_ETR/EVENTOUT/ADC123_IN0/WKUP", 24 PA1 (io) "PA1/USART2_RTS/UART4_RX/ETH_RMII_REF_CLK/ETH_MII_RX_CLK/TIM5_CH2/TIM2_CH2/EVENTOUT/ADC123_IN1", 25 PA2 (io) "PA2/USART2_TX/TIM5_CH3/TIM9_CH1/TIM2_CH3/ETH_MDIO/EVENTOUT/ADC123_IN2", 26 PA3 (io) "PA3/USART2_RX/TIM5_CH4/TIM9_CH2/TIM2_CH4/OTG_HS_ULPI_D0/ETH_MII_COL/EVENTOUT/ADC123_IN3", 29 PA4 (io) "PA4/SPI1_NSS/SPI3_NSS/USART2_CK/DCMI_HSYNC/OTG_HS_SOF/I2S3_WS/EVENTOUT/ADC12_IN4/DAC_OUT1", 30 PA5 (io) "PA5/SPI1_SCK/OTG_HS_ULPI_CK/TIM2_CH1_ETR/TIM8_CH1N/EVENTOUT/ADC12_IN5/DAC_OUT2", 31 PA6 (io) "PA6/SPI1_MISO/TIM8_BKIN/TIM13_CH1/DCMI_PIXCLK/TIM3_CH1/TIM1_BKIN/EVENTOUT/ADC12_IN6", 32 PA7 (io) "PA7/SPI1_MOSI/TIM8_CH1N/TIM14_CH1/TIM3_CH2/ETH_MII_RX_DV/TIM1_CH1N/ETH_RMII_CRS_DV/EVENTOUT/ADC12_IN7", 33 PC4 (io) "PC4/ETH_RMII_RX_D0/ETH_MII_RX_D0/EVENTOUT/ADC12_IN14", 34 PC5 (io) "PC5/ETH_RMII_RX_D1/ETH_MII_RX_D1/EVENTOUT/ADC12_IN15", 35 PB0 (io) "PB0/TIM3_CH3/TIM8_CH2N/OTG_HS_ULPI_D1/ETH_MII_RXD2/TIM1_CH2N/EVENTOUT/ADC12_IN8", 36 PB1 (io) "PB1/TIM3_CH4/TIM8_CH3N/OTG_HS_ULPI_D2/ETH_MII_RXD3/TIM1_CH3N/EVENTOUT/ADC12_IN9", 37 PB2-BOOT1(PB2) (io) "PB2-BOOT1(PB2)/EVENTOUT", 38 PE7 (io) "PE7/FSMC_D4/TIM1_ETR/EVENTOUT", 39 PE8 (io) "PE8/FSMC_D5/TIM1_CH1N/EVENTOUT", 40 PE9 (io) "PE9/FSMC_D6/TIM1_CH1/EVENTOUT", 41 PE10 (io) "PE10/FSMC_D7/TIM1_CH2N/EVENTOUT", 42 PE11 (io) "PE11/FSMC_D8/TIM1_CH2/EVENTOUT", 43 PE12 (io) "PE12/FSMC_D9/TIM1_CH3N/EVENTOUT", 44 PE13 (io) "PE13/FSMC_D10/TIM1_CH3/EVENTOUT", 45 PE14 (io) "PE14/FSMC_D11/TIM1_CH4/EVENTOUT", 46 PE15 (io) "PE15/FSMC_D12/TIM1_BKIN/EVENTOUT", 47 PB10 (io) "PB10/SPI2_SCK/I2S2_CK/I2C2_SCL/USART3_TX/OTG_HS_ULPI_D3/ETH_MII_RX_ER/TIM2_CH3/EVENTOUT", 48 PB11 (io) "PB11/I2C2_SDA/USART3_RX/OTG_HS_ULPI_D4/ETH_RMII_TX_EN/ETH_MII_TX_EN/TIM2_CH4/EVENTOUT", 49 VCAP_1 (power), 51 PB12 (io) "PB12/SPI2_NSS/I2S2_WS/I2C2_SMBA/USART3_CK/TIM1_BKIN/CAN2_RX/OTG_HS_ULPI_D5/ETH_RMII_TXD0/ETH_MII_TXD0/OTG_HS_ID/EVENTOUT", 52 PB13 (io) "PB13/SPI2_SCK/I2S2_CK/USART3_CTS/TIM1_CH1N/CAN2_TX/OTG_HS_ULPI_D6/ETH_RMII_TXD1/ETH_MII_TXD1/EVENTOUT/OTG_HS_VBUS", 53 PB14 (io) "PB14/SPI2_MISO/TIM1_CH2N/TIM12_CH1/OTG_HS_DM/USART3_RTS/TIM8_CH2N/I2S2ext_SD/EVENTOUT", 54 PB15 (io) "PB15/SPI2_MOSI/I2S2_SD/TIM1_CH3N/TIM8_CH3N/TIM12_CH2/OTG_HS_DP/EVENTOUT/RTC_REFIN", 55 PD8 (io) "PD8/FSMC_D13/USART3_TX/EVENTOUT", 56 PD9 (io) "PD9/FSMC_D14/USART3_RX/EVENTOUT", 57 PD10 (io) "PD10/FSMC_D15/USART3_CK/EVENTOUT", 58 PD11 (io) "PD11/FSMC_CLE/FSMC_A16/USART3_CTS/EVENTOUT", 59 PD12 (io) "PD12/FSMC_ALE/FSMC_A17/TIM4_CH1/USART3_RTS/EVENTOUT", 60 PD13 (io) "PD13/FSMC_A18/TIM4_CH2/EVENTOUT", 61 PD14 (io) "PD14/FSMC_D0/TIM4_CH3/EVENTOUT", 62 PD15 (io) "PD15/FSMC_D1/TIM4_CH4/EVENTOUT", 63 PC6 (io) "PC6/I2S2_MCK/TIM8_CH1/SDIO_D6/USART6_TX/DCMI_D0/TIM3_CH1/EVENTOUT", 64 PC7 (io) "PC7/I2S3_MCK/TIM8_CH2/SDIO_D7/USART6_RX/DCMI_D1/TIM3_CH2/EVENTOUT", 65 PC8 (io) "PC8/TIM8_CH3/SDIO_D0/TIM3_CH3/USART6_CK/DCMI_D2/EVENTOUT", 66 PC9 (io) "PC9/I2S_CKIN/MCO2/TIM8_CH4/SDIO_D1/I2C3_SDA/DCMI_D3/TIM3_CH4/EVENTOUT", 67 PA8 (io) "PA8/MCO1/USART1_CK/TIM1_CH1/I2C3_SCL/OTG_FS_SOF/EVENTOUT", 68 PA9 (io) "PA9/USART1_TX/TIM1_CH2/I2C3_SMBA/DCMI_D0/EVENTOUT/OTG_FS_VBUS", 69 PA10 (io) "PA10/USART1_RX/TIM1_CH3/OTG_FS_ID/DCMI_D1/EVENTOUT", 70 PA11 (io) "PA11/USART1_CTS/CAN1_RX/TIM1_CH4/OTG_FS_DM/EVENTOUT", 71 PA12 (io) "PA12/USART1_RTS/CAN1_TX/TIM1_ETR/OTG_FS_DP/EVENTOUT", 72 PA13(JTMS-SWDIO) (io) "PA13(JTMS-SWDIO)/JTMS-SWDIO/EVENTOUT", 73 VCAP_2 (power), 76 PA14(JTCK-SWCLK) (io) "PA14(JTCK-SWCLK)/JTCK-SWCLK/EVENTOUT", 77 PA15(JTDI) (io) "PA15(JTDI)/JTDI/SPI3_NSS/I2S3_WS/TIM2_CH1_ETR/SPI1_NSS/EVENTOUT", 78 PC10 (io) "PC10/SPI3_SCK/I2S3_CK/UART4_TX/SDIO_D2/DCMI_D8/USART3_TX/EVENTOUT", 79 PC11 (io) "PC11/UART4_RX/SPI3_MISO/SDIO_D3/DCMI_D4/USART3_RX/I2S3ext_SD/EVENTOUT", 80 PC12 (io) "PC12/UART5_TX/SDIO_CK/DCMI_D9/SPI3_MOSI/I2S3_SD/USART3_CK/EVENTOUT", 81 PD0 (io) "PD0/FSMC_D2/CAN1_RX/EVENTOUT", 82 PD1 (io) "PD1/FSMC_D3/CAN1_TX/EVENTOUT", 83 PD2 (io) "PD2/TIM3_ETR/UART5_RX/SDIO_CMD/DCMI_D11/EVENTOUT", 84 PD3 (io) "PD3/FSMC_CLK/USART2_CTS/EVENTOUT", 85 PD4 (io) "PD4/FSMC_NOE/USART2_RTS/EVENTOUT", 86 PD5 (io) "PD5/FSMC_NWE/USART2_TX/EVENTOUT", 87 PD6 (io) "PD6/FSMC_NWAIT/USART2_RX/EVENTOUT", 88 PD7 (io) "PD7/USART2_CK/FSMC_NE1/FSMC_NCE2/EVENTOUT", 89 PB3(JTDO/TRACESWO) (io) "PB3(JTDO/TRACESWO)/JTDO/TRACESWO/SPI3_SCK/I2S3_CK/TIM2_CH2/SPI1_SCK/EVENTOUT", 90 PB4(NJTRST) (io) "PB4(NJTRST)/NJTRST/SPI3_MISO/TIM3_CH1/SPI1_MISO/I2S3ext_SD/EVENTOUT", 91 PB5 (io) "PB5/I2C1_SMBA/CAN2_RX/OTG_HS_ULPI_D7/ETH_PPS_OUT/TIM3_CH2/SPI1_MOSI/SPI3_MOSI/DCMI_D10/I2S3_SD/EVENTOUT", 92 PB6 (io) "PB6/I2C1_SCL/TIM4_CH1/CAN2_TX/DCMI_D5/USART1_TX/EVENTOUT", 93 PB7 (io) "PB7/I2C1_SDA/FSMC_NL/DCMI_VSYNC/USART1_RX/TIM4_CH2/EVENTOUT", 94 BOOT0 (in) "BOOT0/VPP", 95 PB8 (io) "PB8/TIM4_CH3/SDIO_D4/TIM10_CH1/DCMI_D6/ETH_MII_TXD3/I2C1_SCL/CAN1_RX/EVENTOUT", 96 PB9 (io) "PB9/SPI2_NSS/I2S2_WS/TIM4_CH4/TIM11_CH1/SDIO_D5/DCMI_D7/I2C1_SDA/CAN1_TX/EVENTOUT", 97 PE0 (io) "PE0/TIM4_ETR/FSMC_NBL0/DCMI_D2/EVENTOUT", 98 PE1 (io) "PE1/FSMC_NBL1/DCMI_D3/EVENTOUT"
part B pins: 6 VBAT (power), 10 VSS (power), 11 VDD (power), 19 VDD (power), 20 VSSA (power), 21 VREF+ (power), 22 VDDA (power), 27 VSS (power), 28 VDD (power), 50 VDD (power), 74 VSS (power), 75 VDD (power), 99 VSS (power), 100 VDD (power)

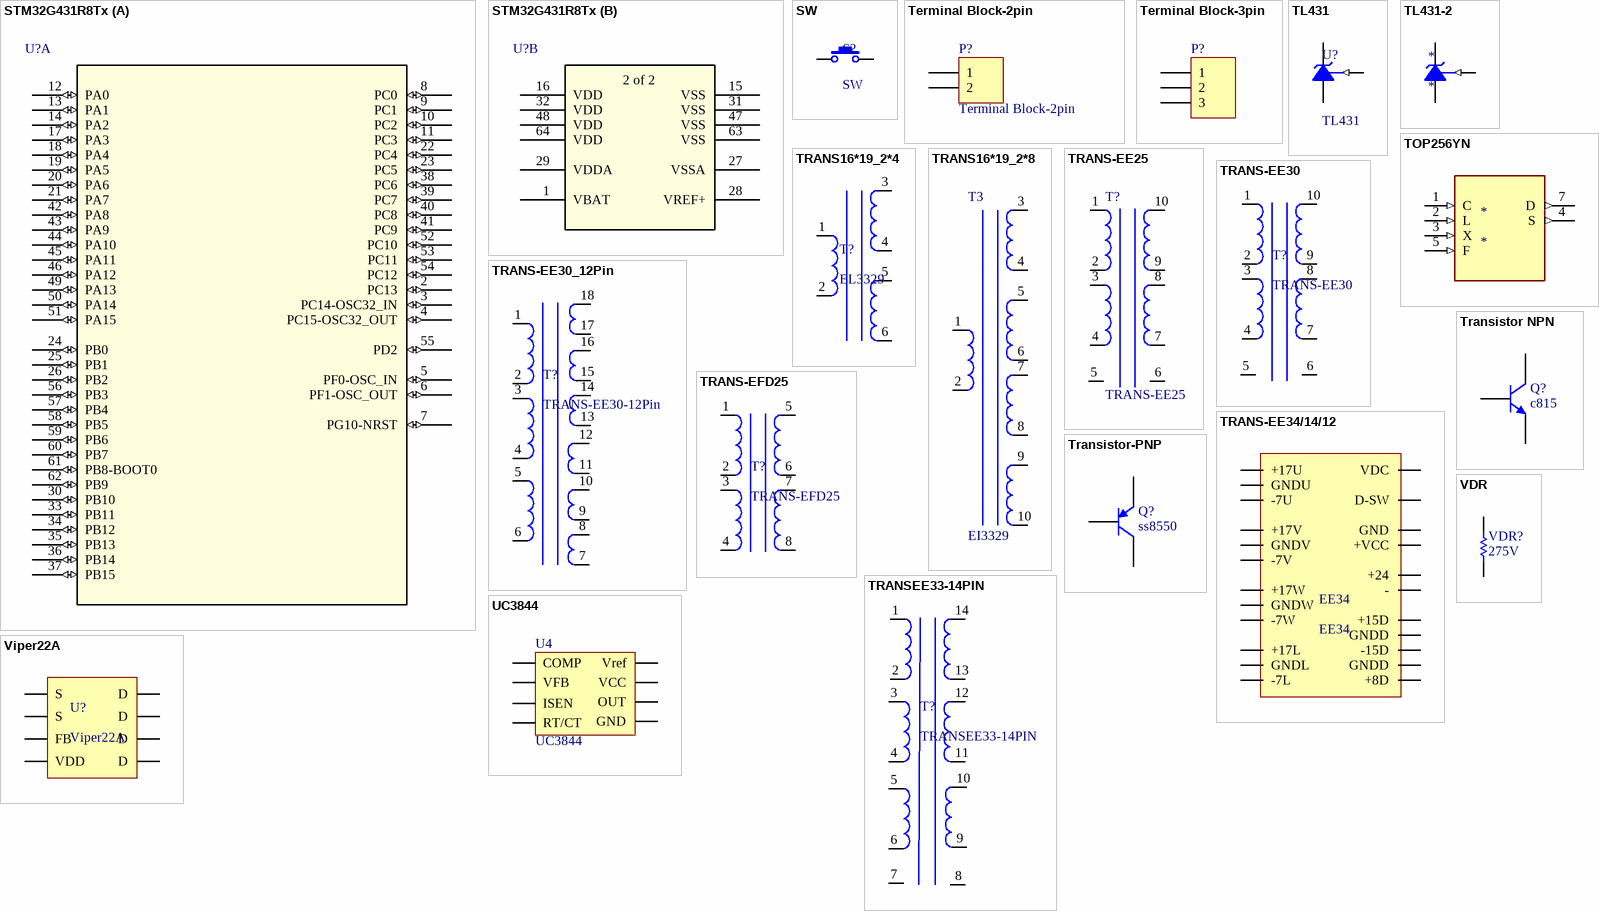
[diagram p3: symbols STM32G431R8Tx to Viper22A]

## STM32G431R8Tx
designator U?
Mainstream Arm Cortex-M4 core with DSP and FPU, 170MHz with 64Kbytes of Flash memory, Math Accelerator, Medium Analog level integration; Manufacturer_Part_Number: stm32g4_lqfp64_t1; Built_By: EMA_Jessica; Vendor: STMicroelectronics; Copyright: Copyright (C) 2016 Accelerated Designs. All rights reserved; RefDes: RefDes; Type: DEV; Value: Value
footprint ST-64Pin
part A pins: 2 PC13 (io), 3 PC14-OSC32_IN (io), 4 PC15-OSC32_OUT (io), 5 PF0-OSC_IN (io), 6 PF1-OSC_OUT (io), 7 PG10-NRST (io), 8 PC0 (io), 9 PC1 (io), 10 PC2 (io), 11 PC3 (io), 12 PA0 (io), 13 PA1 (io), 14 PA2 (io), 17 PA3 (io), 18 PA4 (io), 19 PA5 (io), 20 PA6 (io), 21 PA7 (io), 22 PC4 (io), 23 PC5 (io), 24 PB0 (io), 25 PB1 (io), 26 PB2 (io), 30 PB10 (io), 33 PB11 (io), 34 PB12 (io), 35 PB13 (io), 36 PB14 (io), 37 PB15 (io), 38 PC6 (io), 39 PC7 (io), 40 PC8 (io), 41 PC9 (io), 42 PA8 (io), 43 PA9 (io), 44 PA10 (io), 45 PA11 (io), 46 PA12 (io), 49 PA13 (io), 50 PA14 (io), 51 PA15 (io), 52 PC10 (io), 53 PC11 (io), 54 PC12 (io), 55 PD2 (io), 56 PB3 (io), 57 PB4 (io), 58 PB5 (io), 59 PB6 (io), 60 PB7 (io), 61 PB8-BOOT0 (io), 62 PB9 (io)
part B pins: 1 VBAT (power), 15 VSS (power), 16 VDD (power), 27 VSSA (power), 28 VREF+ (power), 29 VDDA (power), 31 VSS (power), 32 VDD (power), 47 VSS (power), 48 VDD (power), 63 VSS (power), 64 VDD (power)
part B text: 2 of 2

## SW
designator S?
Switch; Published: 24-Mar-1999; LatestRevisionDate: 17-Jul-2002; LatestRevisionNote: Re-released for DXP Platform.; PackageReference: SPST-2; Publisher: Altium Limited; PackageDescription: Switch; 2 Leads
footprint SW
pins: 1, 2

## Terminal Block-2pin
designator P?
LatestRevisionDate: 17-Jul-2002; LatestRevisionNote: Re-released for DXP Platform.; Publisher: Altium Limited
footprint Terminal Block-2pin
pins: 1, 2

## Terminal Block-3pin
designator P?
Terminal Block-3pin; LatestRevisionDate: 17-Jul-2002; LatestRevisionNote: Re-released for DXP Platform.; Publisher: Altium Limited
footprint Terminal Block-3pin
pins: 1, 2, 3

## TL431
designator U?
Manufacturer: Texas Instruments; PartNumber: TL431ACLPE3; Eco-Plan: Pb-Free (RoHS); Initial Accuracy @ 25/deg C(%): 1; Iout/Iz(Max)(mA): 100; Min Iz for Regulation(uA): 600; Rating: Catalog; SubFamily: Shunt Voltage Reference; Temp Coeff(Max)(ppm/ degree C): 92; Temp Coeff(Typ)(ppm/ degree C): 34; VO Adj(Max)(V): 36; VO Adj(Min)(V): 2.495; DatasheetVersion: SLVS543M; PackageVersion: 4040001-2/C; PackageReference: LP3; PackageDescription: Plastic Cylindrical Package, Formed Lead Option (TO-92); Supplier 1: Digi-Key; Supplier Part Number 1: TL431ACLPE3-ND; Supplier 2: Newark; Supplier Part Number 2: 70K5573; Supplier 3: Mouser; Supplier Part Number 3: 595-TL431ACLPE3; Mounting Technology: Through Hole; Code_JEDEC: TO-226; ComponentLink1Description: Manufacturer URL; ComponentLink1URL: http://www.ti.com/; ComponentLink2Description: Datasheet; ComponentLink2URL: http://www.ti.com/general/docs/lit/getliterature.tsp?genericPartNumber=TL431A&fileType=pdf; ComponentLink3Description: Package Specification; ComponentLink3URL: http://www.ti.com/litv/pdf/msot002a
footprint TO-92
footprint SOT23-TL431
pins: 1 CATHODE, 2 ANODE, 3 REF (in)

## TL431-2
designator *
footprint SO-8-N
pins: 1 CATHODE, 2 ANODE, 3 ANODE, 4 ANODE, 5 ANODE, 6 ANODE, 7 ANODE, 8 REF (in)

## TOP256YN
designator *
footprint TOP256YN
pins: 1 C (in), 2 L (in), 3 X (in), 4 S (out), 5 F (in), 7 D (out)

## TRANS16*19_2*4
designator T?, comment EL3329
Transformer
footprint TRANS16*19-2*4
footprint TRANS16*19-5*5
pins: 1, 2, 3, 4, 5, 6

## TRANS16*19_2*8
designator T3, comment EI3329
Transformer
footprint Trans16*19-2*8
pins: 1, 2, 3, 4, 5, 6, 7, 8, 9, 10

## TRANS-EE25
designator T?
Transformer
footprint EE25
pins: 1, 2, 3, 4, 5, 6, 7, 8, 9, 10

## TRANS-EE30
designator T?
Transformer
footprint TRANS-EE30
footprint TRANS16*19-5*5
pins: 1, 2, 3, 4, 5, 6, 7, 8, 9, 10

## TRANS-EE30_12Pin
designator T?, comment TRANS-EE30-12Pin
Transformer
footprint TRANS-EE30-12PIN
pins: 1, 2, 3, 4, 5, 6, 7, 8, 9, 10, 11, 12, 13, 14, 15, 16, 17, 18

## TRANS-EE34/14/12
designator EE34, comment EE34
footprint EE34/14/12
pins: 1 +17U, 2 GNDU, 3 -7U, 4 +17V, 5 GNDV, 6 -7V, 7 +17W, 8 GNDW, 9 -7W, 10 +17L, 11 GNDL, 12 -7L, 13 +8D, 14 GNDD, 15 -15D, 16 GNDD, 17 +15D, 18 -, 19 +24, 20 +VCC, 21 GND, 22 D-SW, 23 VDC

## TRANS-EFD25
designator T?
Transformer
footprint TRANS-EFD25
pins: 1, 2, 3, 4, 5, 6, 7, 8

## TRANSEE33-14PIN
designator T?
footprint EE33-14PIN
pins: 1, 2, 3, 4, 5, 6, 7, 8, 9, 10, 11, 12, 13, 14

## Transistor NPN
designator Q?, comment c815
NPN General Purpose Amplifier; Published: 8-Jun-2000; LatestRevisionDate: 15-Jan-2003; LatestRevisionNote: PCB Footprint 'BCY-W3/D4.7' replaced; DatasheetVersion: 1997; PackageVersion: Sep-1998; PackageReference: TO-92A; Publisher: Altium Limited; PackageDescription: TO, Flat Index; 3 In-Line, Axial Leads; Body Dia. 4.5mm; Leads 0.51 x 0.48 mm (max); ComponentLink1Description: Manufacturer Link; ComponentLink1URL: http://www.fairchildsemi.com/; ComponentLink2Description: Datasheet; ComponentLink2URL: http://www.fairchildsemi.com/ds/2N%2F2N3904.pdf
footprint TO-92
footprint SOT23
footprint TO-252
pins: 1 E, 2 B, 3 C

## Transistor-PNP
designator Q?, comment ss8550
PNP General Purpose Amplifier; Published: 8-Jun-2000; LatestRevisionDate: 15-Jan-2003; LatestRevisionNote: PCB Footprint 'BCY-W3/D4.7' replaced; DatasheetVersion: 1997; PackageVersion: Sep-1998; PackageReference: TO-92A; Publisher: Altium Limited; PackageDescription: TO, Flat Index; 3 In-Line, Axial Leads; Body Dia. 4.5mm; Leads 0.51 x 0.48 mm (max); ComponentLink1Description: Manufacturer Link; ComponentLink1URL: http://www.fairchildsemi.com/; ComponentLink2Description: Datasheet; ComponentLink2URL: http://www.fairchildsemi.com/ds/2N%2F2N3906.pdf
footprint TO-92
footprint SOT23
pins: 1 E, 2 B, 3 C

## UC3844
designator U4
footprint SO-8-N
pins: 1 COMP, 2 VFB, 3 ISEN, 4 RT/CT, 5 GND, 6 OUT, 7 VCC, 8 Vref

## VDR
designator VDR?  value 275V  (hidden comment: VDR)
Resistor; Published: 8-Jun-2000; LatestRevisionDate: 17-Jul-2002; LatestRevisionNote: Re-released for DXP Platform.; PackageReference: AXIAL-0.3; Publisher: Altium Limited; PackageDescription: Axial Device, Thru-Hole; 2 Leads; 0.3 in Pin Spacing
footprint VDR-14mm
footprint VDR-7mm
pins: 1, 2

## Viper22A
designator U?
footprint PDIP8 (DIP; 8 Leads; Row Spacing 7.62 mm; Pitch 2.54 mm)
pins: 1 S, 2 S, 3 FB, 4 VDD, 5 D, 6 D, 7 D, 8 D